# Altium footprint library CLF10040T100MD.PcbLib: 1 footprints
Each footprint in its own frame and in the unit in brackets; x right, y up, seen from the top. Pads: shape width x height; smd on the part's side, far side on the other; paste and mask are expansions set on the pad; w line width, h text height; cw(c..) or ccw(c..) is an arc to the next point about the centre after c.
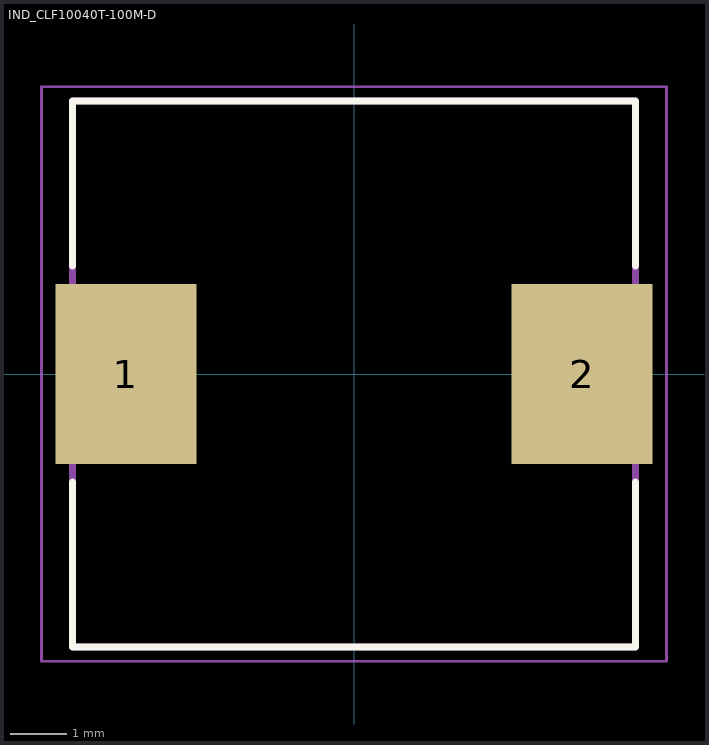
[diagram p0: the footprint, top view; thin cyan lines are the x and y axes]

## IND_CLF10040T-100M-D [mm]
pads (2):
  rect 2.5x3.2 smd: 1(-4.05,0) 2(4.05,0)
Top Overlay:
  lines w0.127: -5,-1.92 -5,-4.85 5,-4.85 5,-1.92 ; -5,1.92 -5,4.85 5,4.85 5,1.92
Mechanical 13:
  lines w0.127: -5,-4.85 5,-4.85 5,4.85 -5,4.85 -5,-4.85
Mechanical 15:
  lines w0.05: -5.55,-5.1 5.55,-5.1 5.55,5.1 -5.55,5.1 -5.55,-5.1